# Altium schematic symbol library Texas_Instruments.SchLib: 2 symbols
Pins are listed as number, name and electrical type; pins without a type are passive.

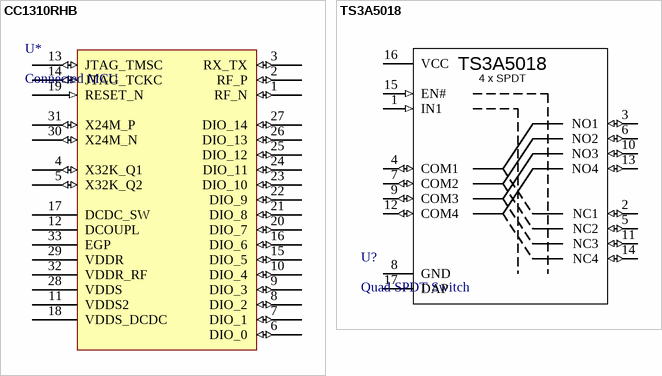
[diagram p0: symbols CC1310RHB to TS3A5018]

## CC1310RHB
designator U*, comment Connected MCU
The CC1310 device is a cost-effective, ultra-low-power, Sub-1 GHz RF device from Texas Instruments ™ that is part of the SimpleLink ™ microcontroller (MCU) platform. The platform consists of Wi-Fi ® , Bluetooth ® low energy, Sub-1 GHz, Ethernet, Zigbee ® , Thread, and host MCUs. These devices all share a common, easy-to-use development environment with a single core software development kit (SDK) and a rich tool set. A one-time integration of the SimpleLink platform enables users to add any combination of devices from the portfolio into their design, allowing 100 percent code reuse when design requirements change. For more information, visit www.ti.com/simplelink .; ComponentLink1Description: TI Product page; ComponentLink1URL: http://www.ti.com/product/CC1310/description
footprint VQFN (RHB) (Texas Instruments connected MCU RHB package, QFN, 32-Leads, Body 5,00x5,00mm, Pitch 0,50mm, Thermal Pad 3,45x3,45mm, IPC Medium Density)
pins: 1 RF_N (io) "Negative RF input signal to LNA during RX, Negative RF output signal from PA during TX", 2 RF_P (io) "Positive RF input signal to LNA during RX, Positive RF output signal from PA during TX", 3 RX_TX (io) "Optional bias pin for the RF LNA", 4 X32K_Q1 (io) "32-kHz crystal oscillator, pin 1", 5 X32K_Q2 (io) "32-kHz crystal oscillator pin 2", 6 DIO_0 (io) "GPIO, Sensor Controller", 7 DIO_1 (io) "GPIO, Sensor Controller", 8 DIO_2 (io) "GPIO, Sensor Controller, High-drive capability", 9 DIO_3 (io) "GPIO, Sensor Controller, High-drive capability", 10 DIO_4 (io) "GPIO, Sensor Controller, High-drive capability", 11 VDDS2 (power) "1.8-V to 3.8-V GPIO supply", 12 DCOUPL (power) "1.27-V regulated digital-supply decoupling", 13 JTAG_TMSC (io) "JTAG TMSC, high-drive capability", 14 JTAG_TCKC (io) "JTAG TCKC", 15 DIO_5 (io) "GPIO, high-drive capability, JTAG_TDO", 16 DIO_6 (io) "GPIO, high-drive capability, JTAG_TDI", 17 DCDC_SW (power) "Output from internal DC/DC", 18 VDDS_DCDC (power) "1.8-V to 3.8-V DC/DC supply", 19 RESET_N (in) "Reset, active low, no internal pullup", 20 DIO_7 (io) "GPIO, Sensor Controller, analog", 21 DIO_8 (io) "GPIO, Sensor Controller, analog", 22 DIO_9 (io) "GPIO, Sensor Controller, analog", 23 DIO_10 (io) "GPIO, Sensor Controller, analog", 24 DIO_11 (io) "GPIO, Sensor Controller, analog", 25 DIO_12 (io) "GPIO, Sensor Controller, analog", 26 DIO_13 (io) "GPIO, Sensor Controller, analog", 27 DIO_14 (io) "GPIO, Sensor Controller, analog", 28 VDDS (power) "1.8-V to 3.8-V main chip supply", 29 VDDR (power) "1.7-V to 1.95-V supply, connect to output of internal DC/DC", 30 X24M_N (io) "24-MHz crystal oscillator, pin 1", 31 X24M_P (io) "24-MHz crystal oscillator, pin 2", 32 VDDR_RF (power) "1.7-V to 1.95-V supply, connect to output of internal DC/DC", 33 EGP (power) "Ground; exposed ground pad"

## TS3A5018
designator U?, comment Quad SPDT Switch
The TS3A5018 device is a quad single-pole double-throw(SPDT) analog switch that is designed to operate from1.8 V to 3.6 V. This device can handle digital and analog signals, and signals up to V+ can be transmitted in either direction.
footprint R-PVQFN-N16 (PQFN, 16-Leads, Body 4,00x3,50mm, Pitch 0,50mm/1,50mm, Thermal Pad 2,55x2,05mm, IPC Medium Density)
footprint TSSOP-16 (TSOP, 16-Leads, Body 5,00x4,40mm, Pitch 0,65mm, IPC Medium Density)
pins: 1 IN1 (in) "Switch path selector input", 2 NC1 (io) "I/O Normally closed path for switch", 3 NO1 (io) "I/O Normally open path for switch", 4 COM1 (io) "I/O Common path for switch", 5 NC2 (io) "I/O Normally closed path for switch", 6 NO2 (io) "I/O Normally open path for switch", 7 COM2 (io) "I/O Common path for switch", 8 GND (power) "Ground", 9 COM3 (io) "I/O Common path for switch", 10 NO3 (io) "I/O Normally open path for switch", 11 NC3 (io) "I/O Normally closed path for switch", 12 COM4 (io) "I/O Common path for switch", 13 NO4 (io) "I/O Normally open path for switch", 14 NC4 (io) "I/O Normally closed path for switch", 15 EN# (in) "Active-low switch enable input", 16 VCC (power) "Supply voltage", 17 DAP (power) "I/O Common path for switch"
text: 4 x SPDT